# Altium footprint library BLDC_Motor_Driver.PcbLib: 122 footprints (part 5 of 8)
Each footprint in its own frame and in the unit in brackets; x right, y up, seen from the top. Pads: shape width x height; smd on the part's side, far side on the other; paste and mask are expansions set on the pad; w line width, h text height; cw(c..) or ccw(c..) is an arc to the next point about the centre after c.
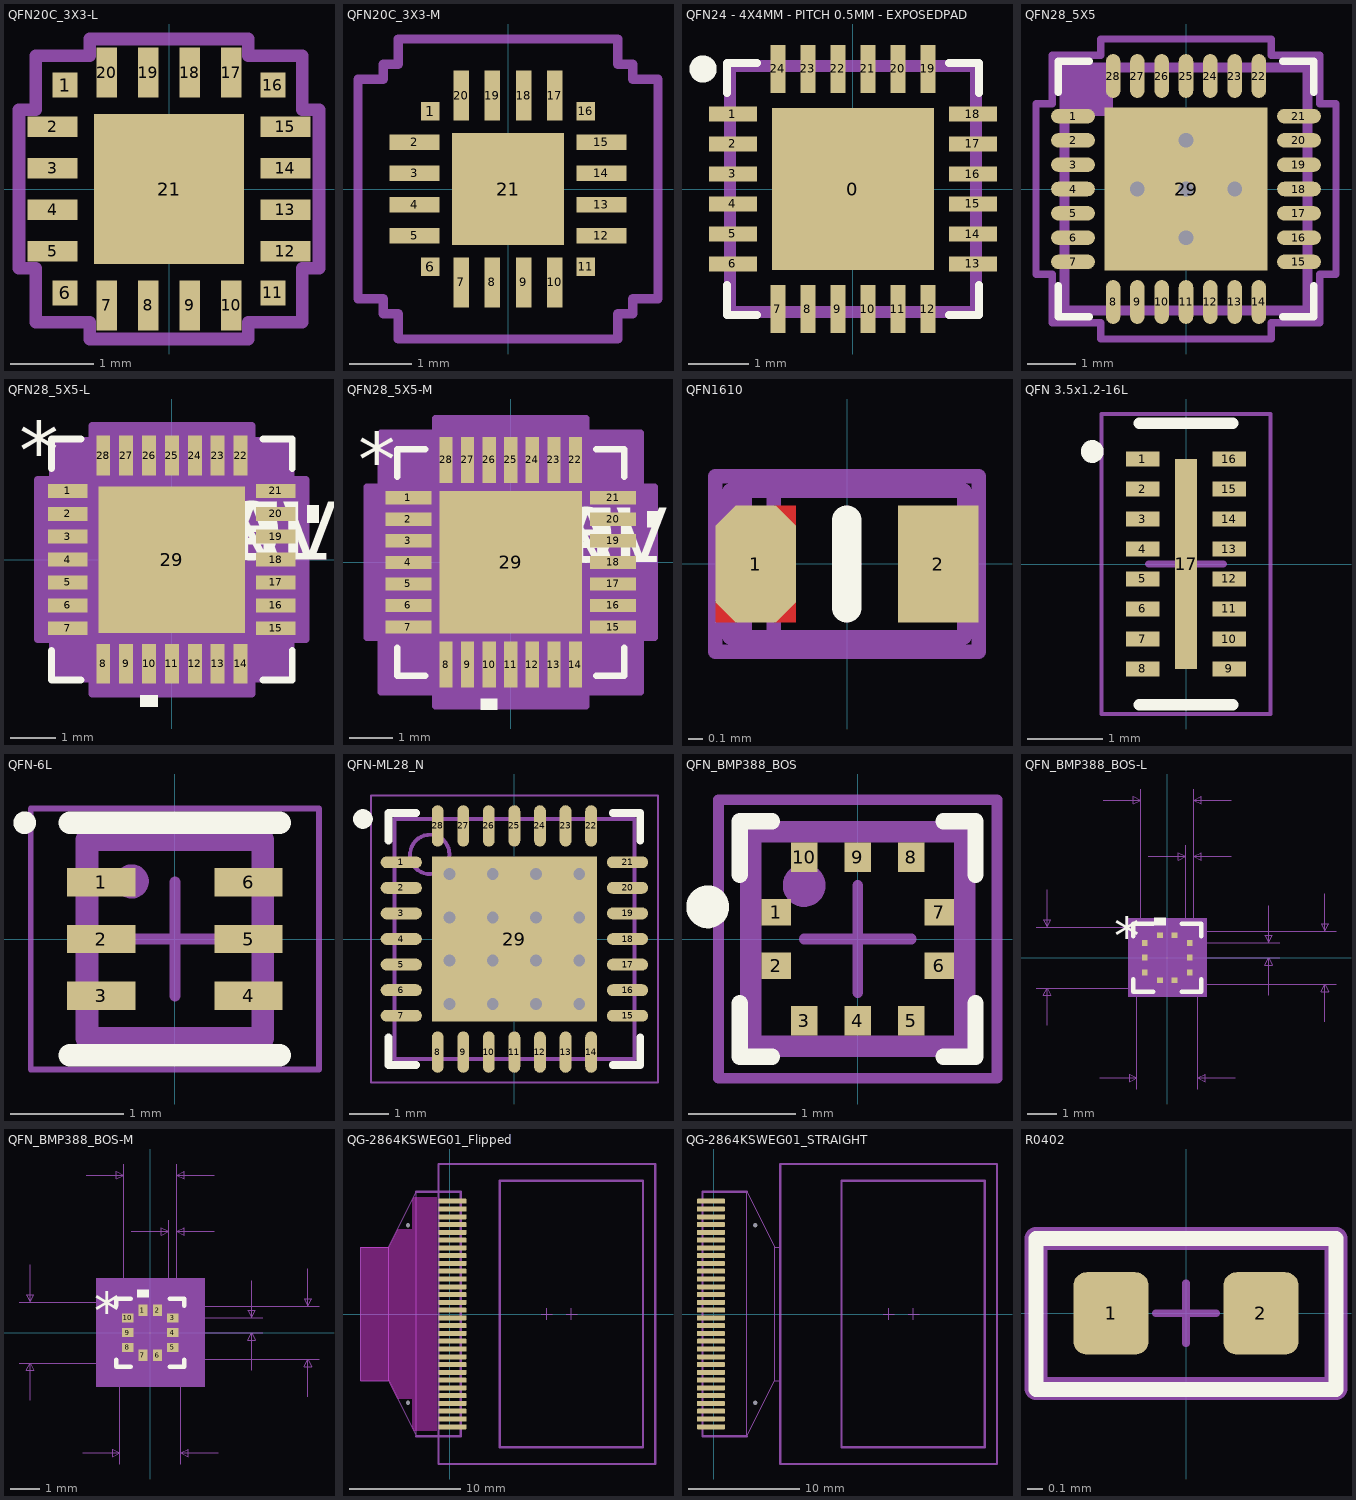
[diagram p4: the footprints below, top view; thin cyan lines are the x and y axes]

## QFN20C_3X3-L [mm]
pads (21):
  rect 0.3x0.3 smd paste+0 mask+0.06: 1(-1.25,1.25) 6(-1.25,-1.25) 11(1.25,-1.25) 16(1.25,1.25)
  rect 0.603x0.25 smd paste+0 mask+0.06: 2(-1.402,0.75) 3(-1.402,0.25) 4(-1.402,-0.25) 5(-1.402,-0.75) 12(1.402,-0.75) 13(1.402,-0.25) 14(1.402,0.25) 15(1.402,0.75)
  rect 0.25x0.603 smd paste+0 mask+0.06: 7(-0.75,-1.402) 8(-0.25,-1.402) 9(0.25,-1.402) 10(0.75,-1.402) 17(0.75,1.402) 18(0.25,1.402) 19(-0.25,1.402) 20(-0.75,1.402)
  rect 1.8x1.8 smd paste-1 mask+0.06: 21(0,0)
Top Overlay:
  text "." at -1.8,1.2 h1.27
Top Paste:
  rectangle: -0.85,0.1 -0.1,0.85
  region: -0.1,-0.85 -0.1,-0.1 -0.85,-0.1 -0.85,-0.85
  region: 0.85,-0.1 0.1,-0.1 0.1,-0.85 0.85,-0.85
  region: 0.1,0.85 0.1,0.1 0.85,0.1 0.85,0.85
3D Body TOP:
  text "RefDes2" at 0,-0.2 h1
  text "*" at -1.9,1.4 h1.27
Courtyard TOP:
  lines w0.152: -1.805,-0.953 -1.805,0.953 -1.602,0.953 -1.602,1.602 -0.953,1.602 -0.953,1.805 0.953,1.805 0.953,1.602 1.602,1.602 1.602,0.953 1.805,0.953 1.805,-0.953 1.602,-0.953 1.602,-1.602 0.953,-1.602 0.953,-1.805 -0.953,-1.805 -0.953,-1.602 -1.602,-1.602 -1.602,-0.953 -1.805,-0.953
3D body: height 0.25, standoff 0, extent 0,0 0.254,0.254
3D body "CP2102N-A02-GQFN20R--3DModel-STEP-56544.STEP": height 0.8, standoff 0, extent -1.5,-1.5 1.5,1.5

## QFN20C_3X3-M [mm]
pads (21):
  rect 0.3x0.3 smd paste+0 mask+0.06: 1(-1.25,1.25) 6(-1.25,-1.25) 11(1.25,-1.25) 16(1.25,1.25)
  rect 0.806x0.25 smd paste+0 mask+0.06: 2(-1.503,0.75) 3(-1.503,0.25) 4(-1.503,-0.25) 5(-1.503,-0.75) 12(1.503,-0.75) 13(1.503,-0.25) 14(1.503,0.25) 15(1.503,0.75)
  rect 0.25x0.806 smd paste+0 mask+0.06: 7(-0.75,-1.503) 8(-0.25,-1.503) 9(0.25,-1.503) 10(0.75,-1.503) 17(0.75,1.503) 18(0.25,1.503) 19(-0.25,1.503) 20(-0.75,1.503)
  rect 1.8x1.8 smd paste-1 mask+0.06: 21(0,0)
Top Overlay:
  text "." at -1.8,1.2 h1.27
Top Paste:
  rectangle: -0.85,0.1 -0.1,0.85
  region: -0.1,-0.85 -0.1,-0.1 -0.85,-0.1 -0.85,-0.85
  region: 0.85,-0.1 0.1,-0.1 0.1,-0.85 0.85,-0.85
  region: 0.1,0.85 0.1,0.1 0.85,0.1 0.85,0.85
3D Body TOP:
  text "*" at -0.25,1.1 h1.27
  text "RefDes2" at 0,0 h1
Courtyard TOP:
  lines w0.152: -2.414,-1.766 -2.008,-1.766 -2.008,-2.008 -1.766,-2.008 -1.766,-2.414 1.766,-2.414 1.766,-2.008 2.008,-2.008 2.008,-1.766 2.414,-1.766 2.414,1.766 2.008,1.766 2.008,2.008 1.766,2.008 1.766,2.414 -1.766,2.414 -1.766,2.008 -2.008,2.008 -2.008,1.766 -2.414,1.766 -2.414,-1.766
3D body: height 0.25, standoff 0, extent 0,0 0.254,0.254
3D body "CP2102N-A02-GQFN20R--3DModel-STEP-56544.STEP": height 0.8, standoff 0, extent -1.5,-1.5 1.5,1.5

## QFN24 - 4X4MM - PITCH 0.5MM - EXPOSEDPAD [mm] "QFN24 - 4X4mm - pitch 0.5mm - ExposedPAD"
height 2.794
pads (25):
  rect 2.7x2.7 smd: 0(0,0)
  rect 0.8x0.25 smd: 1(-2,1.25) 2(-2,0.75) 3(-2,0.25) 4(-2,-0.25) 5(-2,-0.75) 6(-2,-1.25) 13(2,-1.25) 14(2,-0.75) 15(2,-0.25) 16(2,0.25) 17(2,0.75) 18(2,1.25)
  rect 0.25x0.8 smd: 7(-1.25,-2) 8(-0.75,-2) 9(-0.25,-2) 10(0.25,-2) 11(0.75,-2) 12(1.25,-2) 19(1.25,2) 20(0.75,2) 21(0.25,2) 22(-0.25,2) 23(-0.75,2) 24(-1.25,2)
Top Overlay:
  circle w0.254: c-2.5,2 r0.1
  lines w0.127: -2.1,-1.6 -2.1,-2.1 -1.6,-2.1 ; -2.1,1.6 -2.1,2.1 -1.6,2.1 ; 1.6,-2.1 2.1,-2.1 2.1,-1.6 ; 1.6,2.1 2.1,2.1 2.1,1.6
3D Body TOP:
  lines w0.1: -2,-2 2,-2 2,2 -2,2 -2,-2
Courtyard TOP:
  lines w0.1: -2.1,-2.1 2.1,-2.1 2.1,2.1 -2.1,2.1 -2.1,-2.1
  text ".designator" at -0.8,-0.25 h0.5
3D body "User Library-QFN24-4x4-0_5.STEP": height 1, standoff 0, extent -2,-2 2,2

## QFN28_5X5 [mm]
pads (29):
  rrect100% 0.9x0.3 smd paste+0 mask+0.05: 1(-2.324,1.5) 2(-2.324,1) 3(-2.324,0.5) 4(-2.324,0) 5(-2.324,-0.5) 6(-2.324,-1) 7(-2.324,-1.5) 15(2.324,-1.5) 16(2.324,-1) 17(2.324,-0.5) 18(2.324,0) 19(2.324,0.5) 20(2.324,1) 21(2.324,1.5)
  rrect100% 0.3x0.9 smd paste+0 mask+0.05: 8(-1.5,-2.324) 9(-1,-2.324) 10(-0.5,-2.324) 11(0,-2.324) 12(0.5,-2.324) 13(1,-2.324) 14(1.5,-2.324) 22(1.5,2.324) 23(1,2.324) 24(0.5,2.324) 25(0,2.324) 26(-0.5,2.324) 27(-1,2.324) 28(-1.5,2.324)
  rect 3.35x3.35 smd paste-2 mask+0.05: 29(0,0)
via 0,-1 diameter 0.605 hole 0.3
via 0,1 diameter 0.605 hole 0.3
via 1,0 diameter 0.605 hole 0.3
via -1,0 diameter 0.605 hole 0.3
via 0,0 diameter 0.605 hole 0.3
Top Overlay:
  lines w0.152: -2.629,-1.985 -2.629,-2.629 -1.985,-2.629 ; -2.629,1.985 -2.629,2.629 -1.985,2.629 ; 1.985,-2.629 2.629,-2.629 2.629,-1.985 ; 1.985,2.629 2.629,2.629 2.629,1.985
Top Paste:
  region: -0.1,1.525 -1.525,1.525 -1.525,0.1 -0.1,0.1
  region: -0.1,-0.1 -1.525,-0.1 -1.525,-1.525 -0.1,-1.525
  region: 1.525,1.525 0.1,1.525 0.1,0.1 1.525,0.1
  region: 1.525,-0.1 0.1,-0.1 0.1,-1.525 1.525,-1.525
TOP ASSY:
  rectangle: -2.5,1.5 -1.5,2.5
  lines w0.2: -2.5,-2.5 -2.5,2.5 2.5,2.5 2.5,-2.5 -2.5,-2.5
  text "'.Designator'" at -0.5,-0.2 h0.5
Courtyard TOP:
  lines w0.051: -0.5,0 0.5,0 ; 0,-0.5 0,0.5
  lines w0.152: -3.086,-1.75 -2.756,-1.75 -2.756,-2.756 -1.75,-2.756 -1.75,-3.086 1.75,-3.086 1.75,-2.756 2.756,-2.756 2.756,-1.75 3.086,-1.75 3.086,1.75 2.756,1.75 2.756,2.756 1.75,2.756 1.75,3.086 -1.75,3.086 -1.75,2.756 -2.756,2.756 -2.756,1.75 -3.086,1.75 -3.086,-1.75
3D body "QFN28_5X5.stp": height 0.94, standoff 0, extent -2.553,-2.553 2.553,2.553

## QFN28_5X5-L [mil]
pads (29):
  rect 34x12 smd paste+0 mask+0: 1(-89.5,59.06) 2(-89.5,39.37) 3(-89.5,19.68) 4(-89.5,0) 5(-89.5,-19.68) 6(-89.5,-39.37) 7(-89.5,-59.06) 15(89.5,-59.06) 16(89.5,-39.37) 17(89.5,-19.68) 18(89.5,0) 19(89.5,19.68) 20(89.5,39.37) 21(89.5,59.06)
  rect 12x34 smd paste+0 mask+0: 8(-59.06,-89.5) 9(-39.37,-89.5) 10(-19.68,-89.5) 11(0,-89.5) 12(19.68,-89.5) 13(39.37,-89.5) 14(59.06,-89.5) 22(59.06,89.5) 23(39.37,89.5) 24(19.68,89.5) 25(0,89.5) 26(-19.68,89.5) 27(-39.37,89.5) 28(-59.06,89.5)
  rect 125.98x125.98 smd paste-62.49 mask+0: 29(0,0)
Top Overlay:
  region: 116.5,46.87 126.5,46.87 126.5,31.87 116.5,31.87
  region: -12.19,-116.5 -27.18,-116.5 -27.18,-126.5 -12.19,-126.5
  lines w6: -103.5,-78.16 -103.5,-103.5 -78.16,-103.5 ; -103.5,78.16 -103.5,103.5 -78.16,103.5 ; 78.16,-103.5 103.5,-103.5 103.5,-78.16 ; 78.16,103.5 103.5,103.5 103.5,78.16
  text "TOL" at 0,0 h50
  text "VAL" at 0,0 h50
  text "DEV" at 0,0 h50
  text "PN" at 0,0 h50
  text "*" at -131.5,68.9 h50
Top Paste:
  region: 59.06,-3.94 3.94,-3.94 3.94,-59.06 59.06,-59.06
  region: 59.06,59.06 3.94,59.06 3.94,3.94 59.06,3.94
  region: -3.94,-3.94 -59.06,-3.94 -59.06,-59.06 -3.94,-59.06
  region: -3.94,59.06 -59.06,59.06 -59.06,3.94 -3.94,3.94
3D Body TOP:
  text "RefDes2" at 0,0 h50
  text "*" at -72.5,68.9 h50
Courtyard TOP:
  region: -68.9,-102.5 -102.5,-102.5 -102.5,-68.9 -115.5,-68.9 -115.5,68.9 -102.5,68.9 -102.5,102.5 -68.9,102.5 -68.9,115.5 68.9,115.5 68.9,102.5 102.5,102.5 102.5,68.9 115.5,68.9 115.5,-68.9 102.5,-68.9 102.5,-102.5 68.9,-102.5 68.9,-115.5 -68.9,-115.5
  lines w6: -115.5,-68.9 -115.5,68.9 -102.5,68.9 -102.5,102.5 -68.9,102.5 -68.9,115.5 68.9,115.5 68.9,102.5 102.5,102.5 102.5,68.9 115.5,68.9 115.5,-68.9 102.5,-68.9 102.5,-102.5 68.9,-102.5 68.9,-115.5 -68.9,-115.5 -68.9,-102.5 -102.5,-102.5 -102.5,-68.9 -115.5,-68.9
3D body "QFN28_5X5-L.stp": height 37.1, standoff 0, extent -100.5,-100.5 100.5,100.5

## QFN28_5X5-M [mil]
pads (29):
  rect 42x12 smd paste+0 mask+0: 1(-93.5,59.06) 2(-93.5,39.37) 3(-93.5,19.68) 4(-93.5,0) 5(-93.5,-19.68) 6(-93.5,-39.37) 7(-93.5,-59.06) 15(93.5,-59.06) 16(93.5,-39.37) 17(93.5,-19.68) 18(93.5,0) 19(93.5,19.68) 20(93.5,39.37) 21(93.5,59.06)
  rect 12x42 smd paste+0 mask+0: 8(-59.06,-93.5) 9(-39.37,-93.5) 10(-19.68,-93.5) 11(0,-93.5) 12(19.68,-93.5) 13(39.37,-93.5) 14(59.06,-93.5) 22(59.06,93.5) 23(39.37,93.5) 24(19.68,93.5) 25(0,93.5) 26(-19.68,93.5) 27(-39.37,93.5) 28(-59.06,93.5)
  rect 129.92x129.92 smd paste-64.46 mask+0: 29(0,0)
Top Overlay:
  region: -12.19,-124.5 -27.18,-124.5 -27.18,-134.5 -12.19,-134.5
  region: 124.5,46.87 134.5,46.87 134.5,31.87 124.5,31.87
  lines w6: -103.5,-78.16 -103.5,-103.5 -78.16,-103.5 ; -103.5,78.16 -103.5,103.5 -78.16,103.5 ; 78.16,-103.5 103.5,-103.5 103.5,-78.16 ; 78.16,103.5 103.5,103.5 103.5,78.16
  text "*" at -139.5,68.9 h50
  text "PN" at 0,0 h50
  text "DEV" at 0,0 h50
  text "VAL" at 0,0 h50
  text "TOL" at 0,0 h50
Top Paste:
  region: -3.94,61.02 -61.02,61.02 -61.02,3.94 -3.94,3.94
  region: -3.94,-3.94 -61.02,-3.94 -61.02,-61.02 -3.94,-61.02
  region: 61.02,61.02 3.94,61.02 3.94,3.94 61.02,3.94
  region: 61.02,-3.94 3.94,-3.94 3.94,-61.02 61.02,-61.02
3D Body TOP:
  text "*" at -72.5,68.9 h50
  text "RefDes2" at 0,0 h50
Courtyard TOP:
  region: -68.9,-118.5 -118.5,-118.5 -118.5,-68.9 -131.5,-68.9 -131.5,68.9 -118.5,68.9 -118.5,118.5 -68.9,118.5 -68.9,131.5 68.9,131.5 68.9,118.5 118.5,118.5 118.5,68.9 131.5,68.9 131.5,-68.9 118.5,-68.9 118.5,-118.5 68.9,-118.5 68.9,-131.5 -68.9,-131.5
  lines w6: -131.5,-68.9 -118.5,-68.9 -118.5,-118.5 -68.9,-118.5 -68.9,-131.5 68.9,-131.5 68.9,-118.5 118.5,-118.5 118.5,-68.9 131.5,-68.9 131.5,68.9 118.5,68.9 118.5,118.5 68.9,118.5 68.9,131.5 -68.9,131.5 -68.9,118.5 -118.5,118.5 -118.5,68.9 -131.5,68.9 -131.5,-68.9
3D body "QFN28_5X5-M.stp": height 37.1, standoff 0, extent -100.5,-100.5 100.5,100.5

## QFN1610 [mm] "QFN 1610"
height 0.6
pads (2):
  oct 0.55x0.8 smd paste+0 mask+0.1: 1(-0.625,0)
  rect 0.55x0.8 smd: 2(0.625,0)
Top Layer:
  region: -0.35,-0.25 -0.5,-0.25 -0.5,-0.4 -0.35,-0.4
  region: -0.5,0.4 -0.5,0.25 -0.35,0.25 -0.35,0.4
  region: -0.75,-0.4 -0.75,-0.25 -0.9,-0.25 -0.9,-0.4
Top Overlay:
  lines w0.2: -0.002,-0.3 -0.002,0.3
Top Paste:
  region: -0.35,-0.25 -0.5,-0.25 -0.5,-0.4 -0.35,-0.4
  region: -0.35,0.4 -0.5,0.4 -0.5,0.25 -0.35,0.25
  region: -0.75,-0.25 -0.9,-0.25 -0.9,-0.4 -0.75,-0.4
Top Solder:
  region: -0.25,-0.3 -0.475,-0.3 -0.475,-0.5 -0.25,-0.5
  region: -0.8,-0.275 -1,-0.275 -1,-0.5 -0.8,-0.5
  region: -0.25,0.5 -0.475,0.5 -0.475,0.275 -0.25,0.275
3D Body TOP:
  lines w0.1: -0.8,-0.5 0.8,-0.5 0.8,0.5 -0.8,0.5 -0.8,-0.5
Courtyard TOP:
  lines w0.1: -0.7,-0.6 -0.7,0.6 ; -0.5,-0.6 -0.5,0.6 ; -0.9,-0.6 0.9,-0.6 0.9,0.6 -0.9,0.6 -0.9,-0.6
  text ".designator" at -0.381,-0.254 h0.5
3D body: height 0.55, standoff 0.05, extent -0.8,-0.5 0.8,0.5

## QFN 3.5x1.2-16L [mm] "Micro QFN 3.5x1.2-16L footprint"
height 0.5
pads (17):
  rect 0.45x0.2 smd: 1(-0.575,1.4) 2(-0.575,1) 3(-0.575,0.6) 4(-0.575,0.2) 5(-0.575,-0.2) 6(-0.575,-0.6) 7(-0.575,-1) 8(-0.575,-1.4) 9(0.575,-1.4) 10(0.575,-1) 11(0.575,-0.6) 12(0.575,-0.2) 13(0.575,0.2) 14(0.575,0.6) 15(0.575,1) 16(0.575,1.4)
  rect 0.3x2.8 smd: 17(0,0)
Top Overlay:
  circle w0.152: c-1.25,1.5 r0.076
  lines w0.152: -0.625,-1.875 0.625,-1.875 ; -0.625,1.875 0.625,1.875
Courtyard TOP:
  lines w0.051: -1.125,-2 1.125,-2 1.125,2 -1.125,2 -1.125,-2
  lines w0.1: -0.5,0 0.5,0 ; 0,-0.5 0,0.5
3D body "SON40P120X55_HS-17N.step": height 0.55, standoff 0.05, extent -0.625,-1.775 0.625,1.775

## QFN-6L [mm]
height 0.5
pads (6):
  rect 0.6x0.25 smd: 1(-0.65,0.5) 2(-0.65,0) 3(-0.65,-0.5) 4(0.65,-0.5) 5(0.65,0) 6(0.65,0.5)
Top Overlay:
  circle w0.1: c-1.325,1.025 r0.05
  lines w0.2: -0.925,-1.025 0.925,-1.025 ; -0.925,1.025 0.925,1.025
TOP ASSY:
  circle w0.2: c-0.381,0.508 r0.05
  lines w0.2: -0.775,-0.875 0.775,-0.875 0.775,0.875 -0.775,0.875 -0.775,-0.875
  text "'.Designator'" at -0.508,-0.254 h0.5
Courtyard TOP:
  lines w0.05: -1.27,-1.15 1.27,-1.15 1.27,1.15 -1.27,1.15 -1.27,-1.15
  lines w0.1: -0.5,0 0.5,0 ; 0,-0.5 0,0.5
3D body "SON50P150X55-6N.step": height 0.55, standoff 0.05, extent -0.775,-0.875 0.775,0.875

## QFN-ML28_N [mm] "QFN, 28-Leads, Body 6x6mm, Pitch 0.65mm, Thermal Pad 4.2x4.2mm, IPC Medium Density"
height 1
pads (29):
  oval 1.05x0.3 smd: 1(-2.875,1.95) 2(-2.875,1.3) 3(-2.875,0.65) 4(-2.875,0) 5(-2.875,-0.65) 6(-2.875,-1.3) 7(-2.875,-1.95) 15(2.875,-1.95) 16(2.875,-1.3) 17(2.875,-0.65) 18(2.875,0) 19(2.875,0.65) 20(2.875,1.3) 21(2.875,1.95)
  oval 0.3x1.05 smd: 8(-1.95,-2.875) 9(-1.3,-2.875) 10(-0.65,-2.875) 11(0,-2.875) 12(0.65,-2.875) 13(1.3,-2.875) 14(1.95,-2.875) 22(1.95,2.875) 23(1.3,2.875) 24(0.65,2.875) 25(0,2.875) 26(-0.65,2.875) 27(-1.3,2.875) 28(-1.95,2.875)
  rect 4.2x4.2 smd: 29(0,0)
via 1.65,1.65 diameter 0.635 hole 0.3
via 1.65,-1.65 diameter 0.635 hole 0.3
via 0.55,-1.65 diameter 0.635 hole 0.3
via -0.55,-1.65 diameter 0.635 hole 0.3
via 1.65,-0.55 diameter 0.635 hole 0.3
via 0.55,-0.55 diameter 0.635 hole 0.3
via -0.55,-0.55 diameter 0.635 hole 0.3
via 1.65,0.55 diameter 0.635 hole 0.3
via 0.55,0.55 diameter 0.635 hole 0.3
via -0.55,0.55 diameter 0.635 hole 0.3
via 0.55,1.65 diameter 0.635 hole 0.3
via -0.55,1.65 diameter 0.635 hole 0.3
via -1.65,1.65 diameter 0.635 hole 0.3
via -1.65,-0.55 diameter 0.635 hole 0.3
via -1.65,0.55 diameter 0.635 hole 0.3
via -1.65,-1.65 diameter 0.635 hole 0.3
Top Overlay:
  circle w0.25: c-3.85,3.05 r0.125
  lines w0.2: -3.2,-2.5 -3.2,-3.2 -2.5,-3.2 ; -3.2,2.5 -3.2,3.2 -2.5,3.2 ; 2.5,-3.2 3.2,-3.2 3.2,-2.5 ; 2.5,3.2 3.2,3.2 3.2,2.5
3D Body TOP:
  circle w0.1: c-2.15,2.15 r0.5
  lines w0.1: -3.05,-3.05 3.05,-3.05 3.05,3.05 -3.05,3.05 -3.05,-3.05
Courtyard TOP:
  lines w0.05: -3.65,-3.65 3.65,-3.65 3.65,3.65 -3.65,3.65 -3.65,-3.65
  lines w0.1: -0.5,0 0.5,0 ; 0,-0.5 0,0.5
3D body: height 1, standoff 0, extent -3.05,-3.05 3.05,3.05

## QFN_BMP388_BOS [mm]
pads (10):
  rect 0.275x0.25 smd paste+0 mask+0.05: 1(-0.762,0.25) 2(-0.762,-0.25) 6(0.762,-0.25) 7(0.762,0.25)
  rect 0.25x0.275 smd paste+0 mask+0.05: 3(-0.5,-0.762) 4(0,-0.762) 5(0.5,-0.762) 8(0.5,0.762) 9(0,0.762) 10(-0.5,0.762)
Top Overlay:
  circle w0.2: c-1.4,0.3 r0.1
  lines w0.152: -1.1,-0.6 -1.1,-1.1 -0.8,-1.1 ; -1.1,0.6 -1.1,1.1 -0.8,1.1 ; 0.8,-1.1 1.1,-1.1 1.1,-0.6 ; 0.8,1.1 1.1,1.1 1.1,0.6
TOP ASSY:
  circle w0.2: c-0.5,0.5 r0.1
  lines w0.2: -1,-1 -1,1 1,1 1,-1 -1,-1
  text "'.Designator'" at -0.7,-0.3 h0.5
Courtyard TOP:
  lines w0.1: -0.5,0 0.5,0 ; 0,-0.5 0,0.5 ; -1.3,-1.3 1.3,-1.3 1.3,1.3 -1.3,1.3 -1.3,-1.3
3D body "BMP388--3DModel-STEP-56544.STEP": height 0.8, standoff 0, extent -1,-1 1,1

## QFN_BMP388_BOS-L [mil]
pads (10):
  rect 8x7 smd paste+0 mask+0: 1(-9.84,30) 2(9.84,30) 6(9.84,-30) 7(-9.84,-30)
  rect 7x8 smd paste+0 mask+0: 3(30,19.68) 4(30,0) 5(30,-19.68) 8(-30,-19.68) 9(-30,0) 10(-30,19.68)
Top Overlay:
  region: -2.34,43.5 -17.34,43.5 -17.34,53.5 -2.34,53.5
  lines w6: -45.5,-28.94 -45.5,-45.5 -19.1,-45.5 ; -45.5,28.94 -45.5,45.5 -19.1,45.5 ; 19.1,-45.5 45.5,-45.5 45.5,-28.94 ; 19.1,45.5 45.5,45.5 45.5,28.94
  text "*" at -71,4.53 h50
Mechanical 5:
  region: 52.5,-52.5 -52.5,-52.5 -52.5,52.5 52.5,52.5
Mechanical 7:
  lines w1: -175.5,-40.5 40.5,-40.5 ; -175.5,40.5 40.5,40.5 40.5,-175.5 ; -160.5,-90.5 -160.5,-40.5 ; -160.5,90.5 -160.5,40.5 ; -90.5,-160.5 -40.5,-160.5 ; -85.5,210.5 -35.5,210.5 ; -40.5,-175.5 -40.5,40.5 ; -35.5,19.68 -35.5,225.5 ; -25.5,135.5 24.5,135.5 ; 9.84,-35.5 225.5,-35.5 ; 9.84,35.5 225.5,35.5 ; 24.5,19.68 24.5,150.5 ; 30,0 150.5,0 ; 30,19.68 150.5,19.68 ; 35.5,150.5 35.5,19.68 35.5,225.5 ; 85.5,135.5 35.5,135.5 ; 85.5,210.5 35.5,210.5 ; 90.5,-160.5 40.5,-160.5 ; 135.5,-50 135.5,0 ; 135.5,69.69 135.5,19.68 ; 210.5,-85.5 210.5,-35.5 ; 210.5,85.5 210.5,35.5 ; -160.5,-40.5 -155.5,-50.5 -165.5,-50.5 -160.5,-40.5 ; -160.5,40.5 -155.5,50.5 -165.5,50.5 -160.5,40.5 ; -40.5,-160.5 -50.5,-165.5 -50.5,-155.5 -40.5,-160.5 ; -35.5,210.5 -45.5,205.5 -45.5,215.5 -35.5,210.5 ; 24.5,135.5 14.5,130.5 14.5,140.5 24.5,135.5 ; 35.5,135.5 45.5,130.5 45.5,140.5 35.5,135.5 ; 35.5,210.5 45.5,205.5 45.5,215.5 35.5,210.5 ; 40.5,-160.5 50.5,-165.5 50.5,-155.5 40.5,-160.5 ; 135.5,0 140.5,-10 130.5,-10 135.5,0 ; 135.5,19.68 140.5,29.68 130.5,29.68 135.5,19.68 ; 210.5,-35.5 215.5,-45.5 205.5,-45.5 210.5,-35.5 ; 210.5,35.5 215.5,45.5 205.5,45.5 210.5,35.5
  text "0.081in/2.057mm" at -93.75,-205.5 h25
  text "0.081in/2.057mm" at -368,-12.5 h25
  text "0.071in/1.803mm" at 230.5,-12.5 h25
  text "0.071in/1.803mm" at -93.75,230.5 h25
  text "0.011in/0.279mm" at -63.75,155.5 h25
  text "0.02in/0.5mm" at 155.5,-2.66 h25
  text "Alt 2 Padstyle: OX90Y60D30P" at -337.5,-583.5 h50
  text "Alt 1 Padstyle: OX60Y90D30P" at -337.5,-523.5 h50
  text "Default Padstyle: RX8Y7D0T" at -325,-343.5 h50
3D Body TOP:
  lines w1: -40.5,-9.5 9.5,40.5 ; -40.5,-40.5 -40.5,40.5 40.5,40.5 40.5,-40.5 -40.5,-40.5 ; -40.5,-24.68 -35.5,-24.68 -35.5,-14.69 -40.5,-14.69 -40.5,-24.68 ; -40.5,-5 -35.5,-5 -35.5,5 -40.5,5 -40.5,-5 ; -40.5,14.69 -35.5,14.69 -35.5,24.68 -40.5,24.68 -40.5,14.69 ; -14.84,-40.5 -14.84,-35.5 -4.84,-35.5 -4.84,-40.5 -14.84,-40.5 ; -14.84,35.5 -14.84,40.5 -4.84,40.5 -4.84,35.5 -14.84,35.5 ; 4.84,-40.5 4.84,-35.5 14.84,-35.5 14.84,-40.5 4.84,-40.5 ; 4.84,35.5 4.84,40.5 14.84,40.5 14.84,35.5 4.84,35.5 ; 35.5,-24.68 35.5,-14.69 40.5,-14.69 40.5,-24.68 35.5,-24.68 ; 35.5,-5 35.5,5 40.5,5 40.5,-5 35.5,-5 ; 35.5,14.69 35.5,24.68 40.5,24.68 40.5,14.69 35.5,14.69
  text "*" at -39,4.53 h50
Courtyard TOP:
  region: -17.84,-44.5 -44.5,-44.5 -44.5,-27.68 -44.5,27.68 -44.5,44.5 -17.84,44.5 17.84,44.5 44.5,44.5 44.5,27.68 44.5,-27.68 44.5,-44.5 17.84,-44.5
  lines w6: -44.5,-44.5 -17.84,-44.5 17.84,-44.5 44.5,-44.5 44.5,-27.68 44.5,27.68 44.5,44.5 17.84,44.5 -17.84,44.5 -44.5,44.5 -44.5,27.68 -44.5,-27.68 -44.5,-44.5
3D body: height 10, standoff 0, extent 0,0 10,10

## QFN_BMP388_BOS-M [mil]
pads (10):
  rect 12x15 smd paste+0 mask+0: 1(-9.84,30) 2(9.84,30) 6(9.84,-30) 7(-9.84,-30)
  rect 15x12 smd paste+0 mask+0: 3(30,19.68) 4(30,0) 5(30,-19.68) 8(-30,-19.68) 9(-30,0) 10(-30,19.68)
Top Overlay:
  region: -2.34,47.5 -17.34,47.5 -17.34,57.5 -2.34,57.5
  lines w6: -45.5,-36.06 -45.5,-45.5 -26.22,-45.5 ; -45.5,36.06 -45.5,45.5 -26.22,45.5 ; 26.22,-45.5 45.5,-45.5 45.5,-36.06 ; 26.22,45.5 45.5,45.5 45.5,36.06
  text "*" at -75,4.53 h50
Mechanical 5:
  region: 72.5,-72.5 -72.5,-72.5 -72.5,72.5 72.5,72.5
Mechanical 7:
  lines w1: -175.5,-40.5 40.5,-40.5 ; -175.5,40.5 40.5,40.5 40.5,-175.5 ; -160.5,-90.5 -160.5,-40.5 ; -160.5,90.5 -160.5,40.5 ; -90.5,-160.5 -40.5,-160.5 ; -85.5,210.5 -35.5,210.5 ; -40.5,-175.5 -40.5,40.5 ; -35.5,19.68 -35.5,225.5 ; -25.5,135.5 24.5,135.5 ; 9.84,-35.5 225.5,-35.5 ; 9.84,35.5 225.5,35.5 ; 24.5,19.68 24.5,150.5 ; 30,0 150.5,0 ; 30,19.68 150.5,19.68 ; 35.5,150.5 35.5,19.68 35.5,225.5 ; 85.5,135.5 35.5,135.5 ; 85.5,210.5 35.5,210.5 ; 90.5,-160.5 40.5,-160.5 ; 135.5,-50 135.5,0 ; 135.5,69.69 135.5,19.68 ; 210.5,-85.5 210.5,-35.5 ; 210.5,85.5 210.5,35.5 ; -160.5,-40.5 -165.5,-50.5 -155.5,-50.5 -160.5,-40.5 ; -160.5,40.5 -165.5,50.5 -155.5,50.5 -160.5,40.5 ; -40.5,-160.5 -50.5,-155.5 -50.5,-165.5 -40.5,-160.5 ; -35.5,210.5 -45.5,215.5 -45.5,205.5 -35.5,210.5 ; 24.5,135.5 14.5,140.5 14.5,130.5 24.5,135.5 ; 35.5,135.5 45.5,140.5 45.5,130.5 35.5,135.5 ; 35.5,210.5 45.5,215.5 45.5,205.5 35.5,210.5 ; 40.5,-160.5 50.5,-155.5 50.5,-165.5 40.5,-160.5 ; 135.5,0 130.5,-10 140.5,-10 135.5,0 ; 135.5,19.68 130.5,29.68 140.5,29.68 135.5,19.68 ; 210.5,-35.5 205.5,-45.5 215.5,-45.5 210.5,-35.5 ; 210.5,35.5 205.5,45.5 215.5,45.5 210.5,35.5
  text "Default Padstyle: RX12Y15D0T" at -350,-347.5 h50
  text "Alt 1 Padstyle: OX60Y90D30P" at -337.5,-527.5 h50
  text "Alt 2 Padstyle: OX90Y60D30P" at -337.5,-587.5 h50
  text "0.02in/0.5mm" at 155.5,-2.66 h25
  text "0.011in/0.279mm" at -63.75,155.5 h25
  text "0.071in/1.803mm" at -93.75,230.5 h25
  text "0.071in/1.803mm" at 230.5,-12.5 h25
  text "0.081in/2.057mm" at -368,-12.5 h25
  text "0.081in/2.057mm" at -93.75,-205.5 h25
3D Body TOP:
  lines w1: -40.5,-9.5 9.5,40.5 ; -40.5,-40.5 40.5,-40.5 40.5,40.5 -40.5,40.5 -40.5,-40.5 ; -40.5,-24.68 -40.5,-14.69 -35.5,-14.69 -35.5,-24.68 -40.5,-24.68 ; -40.5,-5 -40.5,5 -35.5,5 -35.5,-5 -40.5,-5 ; -40.5,14.69 -40.5,24.68 -35.5,24.68 -35.5,14.69 -40.5,14.69 ; -14.84,-40.5 -4.84,-40.5 -4.84,-35.5 -14.84,-35.5 -14.84,-40.5 ; -14.84,35.5 -4.84,35.5 -4.84,40.5 -14.84,40.5 -14.84,35.5 ; 4.84,-40.5 14.84,-40.5 14.84,-35.5 4.84,-35.5 4.84,-40.5 ; 4.84,35.5 14.84,35.5 14.84,40.5 4.84,40.5 4.84,35.5 ; 35.5,-24.68 40.5,-24.68 40.5,-14.69 35.5,-14.69 35.5,-24.68 ; 35.5,-5 40.5,-5 40.5,5 35.5,5 35.5,-5 ; 35.5,14.69 40.5,14.69 40.5,24.68 35.5,24.68 35.5,14.69
  text "*" at -35,4.53 h50
Courtyard TOP:
  region: -35.84,-60.5 -60.5,-60.5 -60.5,-45.69 -60.5,45.69 -60.5,60.5 -35.84,60.5 35.84,60.5 60.5,60.5 60.5,45.69 60.5,-45.69 60.5,-60.5 35.84,-60.5
  lines w6: -60.5,-60.5 -60.5,-45.69 -60.5,45.69 -60.5,60.5 -35.84,60.5 35.84,60.5 60.5,60.5 60.5,45.69 60.5,-45.69 60.5,-60.5 35.84,-60.5 -35.84,-60.5 -60.5,-60.5
3D body: height 10, standoff 0, extent 0,0 10,10

## QG-2864KSWEG01_Flipped [mm] "Folding Type OLED Display Module"
pads (32):
  round 0.3 hole 0.4 unplated mask+0: 0(-3.75,-8) 0(-3.75,8)
  rrect20% 2.5x0.45 smd mask+0.05: 1(0.25,10.15) 2(0.25,9.45) 3(0.25,8.75) 4(0.25,8.05) 5(0.25,7.35) 6(0.25,6.65) 7(0.25,5.95) 8(0.25,5.25) 9(0.25,4.55) 10(0.25,3.85) 11(0.25,3.15) 12(0.25,2.45) 13(0.25,1.75) 14(0.25,1.05) 15(0.25,0.35) 16(0.25,-0.35) 17(0.25,-1.05) 18(0.25,-1.75) 19(0.25,-2.45) 20(0.25,-3.15) 21(0.25,-3.85) 22(0.25,-4.55) 23(0.25,-5.25) 24(0.25,-5.95) 25(0.25,-6.65) 26(0.25,-7.35) 27(0.25,-8.05) 28(0.25,-8.75) 29(0.25,-9.45) 30(0.25,-10.15)
Top Layer keep-out:
  region: -8,6 -5.5,6 -4.675,7.62 -3.378,7.62 -3.378,10.211 -3.25,10.5 -2,10.5 -2,-10.5 -3.25,-10.5 -3.378,-10.216 -3.378,-7.62 -4.699,-7.62 -5.5,-6 -8,-6
  region: -2,10.5 -1.168,10.5 -1.168,-10.5 -2,-10.5
TOP ASSY:
  lines w0.1: 8.25,0 9.25,0 ; 8.75,-0.5 8.75,0.5 ; 10.5,0 11.5,0 ; 10.95,-0.5 10.95,0.5 ; -5.5,-6 -5.5,6 ; -5.5,-6 -3,-11 -3,11 -5.5,6 ; -5.5,-6 -8,-6 -8,6 -5.5,6
  lines w0.2: -3,-11 1,-11 1,11 -3,11 ; -1,-13.5 18.5,-13.5 18.5,13.5 -1,13.5 -1,-13.5 ; 4.5,-12 4.5,12 17.4,12 17.4,-12 4.5,-12
3D body: height 7.47, standoff 7.4, extent 4.5,-12 17.4,12
3D body: height 7.4, standoff 6, extent -1,-13.5 18.5,13.5

## QG-2864KSWEG01_STRAIGHT [mm] "Folding Type OLED Display Module"
pads (32):
  round 0.3 hole 0.4 unplated mask+0: 0(3.75,-8) 0(3.75,8)
  rrect20% 2.5x0.45 smd: 1(-0.25,10.15) 2(-0.25,9.45) 3(-0.25,8.75) 4(-0.25,8.05) 5(-0.25,7.35) 6(-0.25,6.65) 7(-0.25,5.95) 8(-0.25,5.25) 9(-0.25,4.55) 10(-0.25,3.85) 11(-0.25,3.15) 12(-0.25,2.45) 13(-0.25,1.75) 14(-0.25,1.05) 15(-0.25,0.35) 16(-0.25,-0.35) 17(-0.25,-1.05) 18(-0.25,-1.75) 19(-0.25,-2.45) 20(-0.25,-3.15) 21(-0.25,-3.85) 22(-0.25,-4.55) 23(-0.25,-5.25) 24(-0.25,-5.95) 25(-0.25,-6.65) 26(-0.25,-7.35) 27(-0.25,-8.05) 28(-0.25,-8.75) 29(-0.25,-9.45) 30(-0.25,-10.15)
TOP ASSY:
  lines w0.1: 15.25,0 16.25,0 ; 15.75,-0.5 15.75,0.5 ; 17.5,0 18.5,0 ; 17.95,-0.5 17.95,0.5 ; 5.5,-6 6,-6 6,6 5.5,6 ; 5.5,-6 3,-11 3,11 5.5,6 ; 5.5,-6 5.5,6
  lines w0.2: 3,-11 -1,-11 -1,11 3,11 ; 6,-13.5 6,13.5 25.5,13.5 25.5,-13.5 6,-13.5 ; 11.5,-12 24.4,-12 24.4,12 11.5,12 11.5,-12
3D body: height 7.4, standoff 6, extent 6,-13.5 25.5,13.5
3D body: height 7.47, standoff 7.4, extent 11.5,-12 24.4,12

## R0402 [mm]
pads (2):
  rrect35% 0.5x0.55 smd: 1(-0.5,0) 2(0.5,0)
Top Overlay:
  lines w0.1: -1,-0.508 -1,0.5 1,0.5 1,-0.508 -1,-0.508
TOP ASSY:
  lines w0.152: -1,-0.5 1,-0.5 1,0.5 -1,0.5 -1,-0.5
  text ".Designator" at -0.9,0.8 h0.5
Courtyard TOP:
  lines w0.05: -1,-0.5 -1,0.5 1,0.5 1,-0.5 -1,-0.5
  lines w0.051: -0.2,0 0.2,0 ; 0,-0.2 0,0.2
3D body "RC0402N.step": height 0.71, standoff 0, extent -0.533,-0.254 0.533,0.254